# EAGLE library part LMR14206XMK/NOPB (library rezzonics)
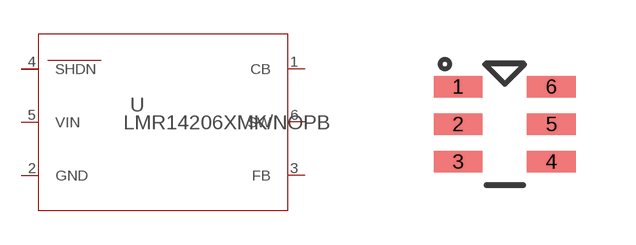
[diagram p0: symbol with the pads of MK06A; footprint MK06A]

Designator prefix -

## LMR14206XMK/NOPB (DATASHEETURL: http://www.ti.com/product/lmr14206x; FREQUENCY: 1200000.0; IMAX: 0.6; MANUFACTURER_NAME: Texas Instruments; MANUFACTURER_PART_NUMBER: LMR14206XMK/NOPB; MKTG_PACKAGE: NA; NSID: LMR14206XMK/NOPB; PACKAGE: NA; VENDOR: Texas Instruments)  [MK06A]
1  CB  pas
2  GND  pas
3  FB  pas
4  SHDN  pas
5  VIN  pas
6  SW  pas

## Footprint MK06A (pad centres in mm)
smd 1.219 x 0.533: 1 -1.168,0.94; 2 -1.168,0; 3 -1.168,-0.94; 4 1.168,-0.94; 5 1.168,0; 6 1.168,0.94